# Altium footprint library PcbLib1.PcbLib: 13 footprints
Each footprint in its own frame and in the unit in brackets; x right, y up, seen from the top. Pads: shape width x height; smd on the part's side, far side on the other; paste and mask are expansions set on the pad; w line width, h text height; cw(c..) or ccw(c..) is an arc to the next point about the centre after c.
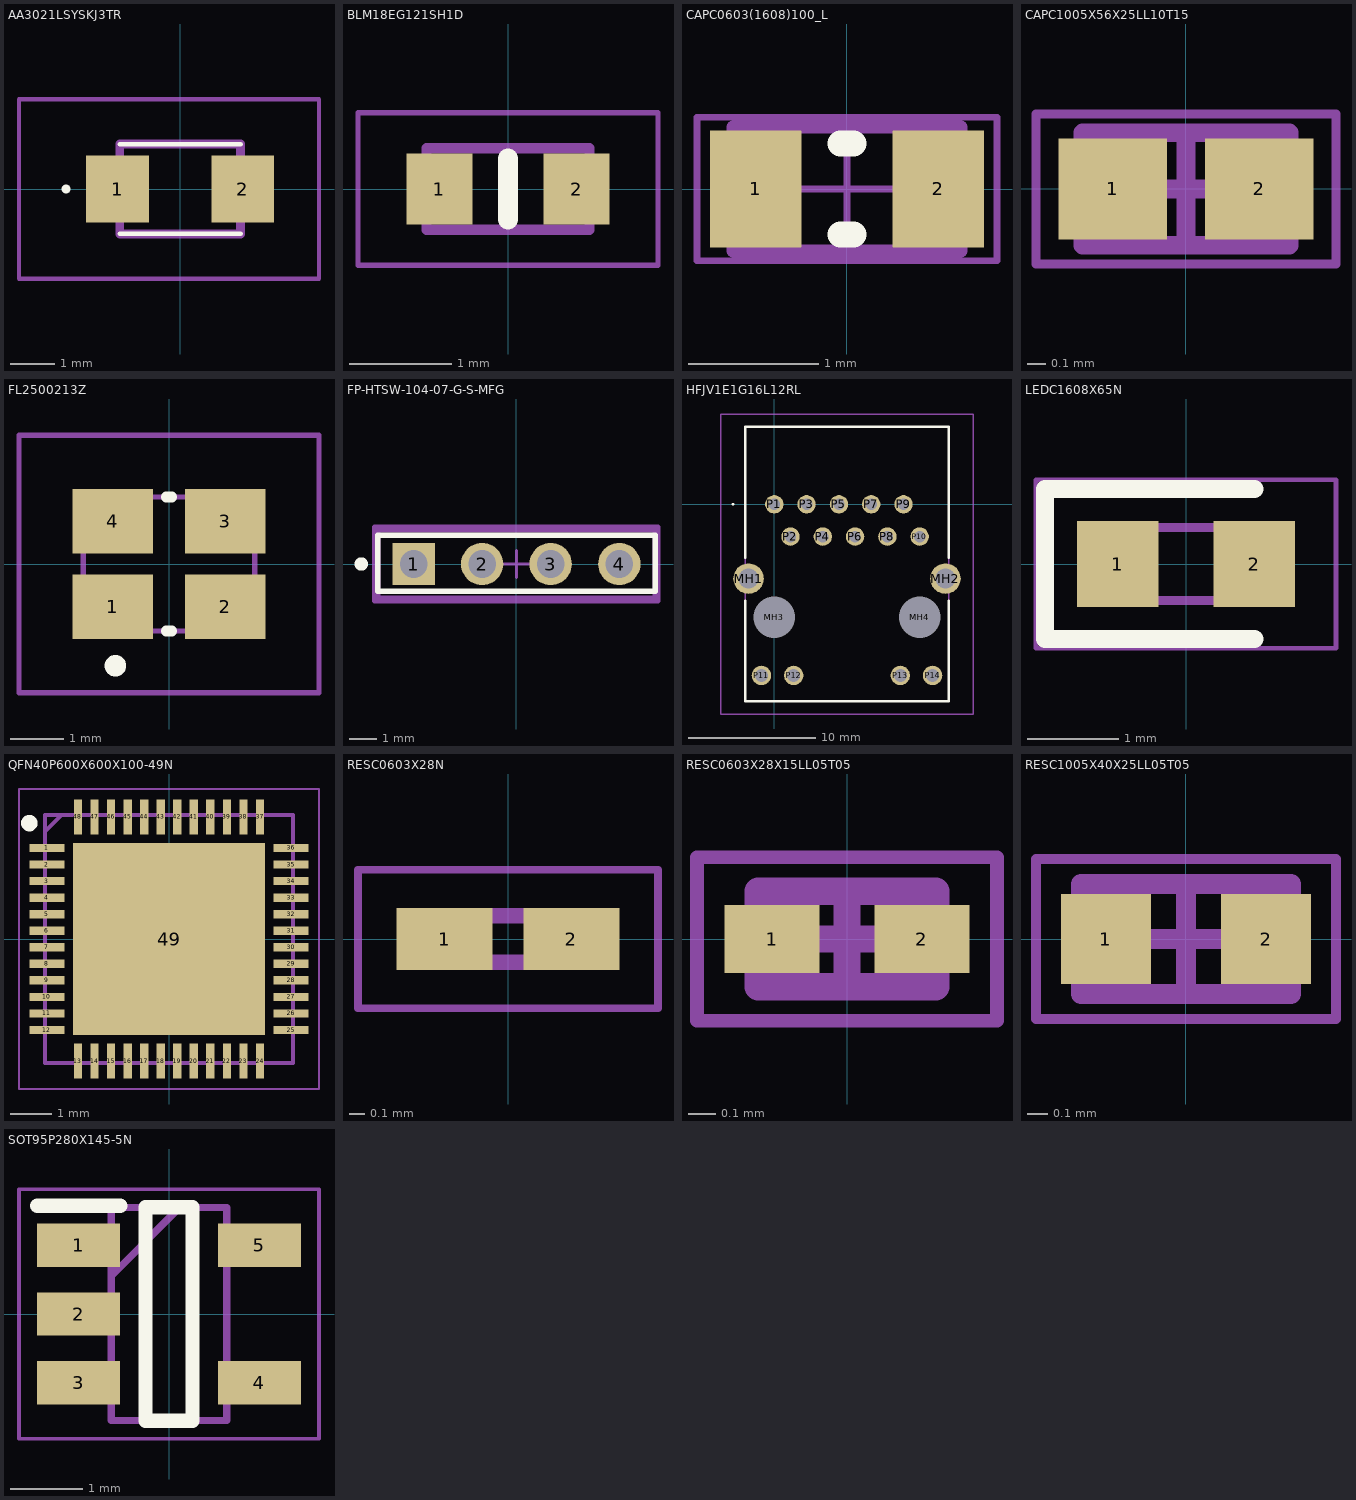
[diagram p0: the footprints below, top view; thin cyan lines are the x and y axes]

## AA3021LSYSKJ3TR [mm]
pads (2):
  rect 1.4x1.5 smd: 1(-1.4,0) 2(1.4,0)
Top Overlay:
  lines w0.1: -1.35,-1 1.35,-1 ; -1.35,1 1.35,1 ; -2.6,0 ccw(c-2.55,0) -2.5,0 ccw(c-2.55,0) -2.6,0
Mechanical 13:
  lines w0.2: -1.35,-1 1.35,-1 1.35,1 -1.35,1 -1.35,-1
Mechanical 15:
  lines w0.1: -3.6,-2 3.1,-2 3.1,2 -3.6,2 -3.6,-2
3D body "AA3021LSYSK_J3-TR.stp": height 1.4, standoff 0, extent -1.35,-1 1.35,1

## BLM18EG121SH1D [mm]
pads (2):
  rect 0.65x0.7 smd: 1(-0.675,0) 2(0.675,0)
Top Overlay:
  lines w0.2: 0,-0.3 0,0.3
Mechanical 13:
  lines w0.1: -0.8,-0.4 -0.8,0.4 0.8,0.4 0.8,-0.4 -0.8,-0.4
Mechanical 15:
  lines w0.05: -1.475,-0.75 -1.475,0.75 1.475,0.75 1.475,-0.75 -1.475,-0.75
3D body "BLM18KG601SN1B.stp": height 0.8, standoff 0, extent -0.8,-0.4 0.8,0.4

## CAPC0603(1608)100_L [mm] "Chip Capacitor, Body 1.6x0.8mm, Height 1.0mm, IPC High Density"
height 1
pads (2):
  rect 0.7x0.9 smd: 1(-0.7,0) 2(0.7,0)
Top Overlay:
  lines w0.2: -0.05,-0.35 0.05,-0.35 ; -0.05,0.35 0.05,0.35
Mechanical 13:
  lines w0.1: -0.875,-0.475 -0.875,0.475 0.875,0.475 0.875,-0.475 -0.875,-0.475
Mechanical 15:
  lines w0.05: -0.475,0 0.475,0 ; 0,-0.475 0,0.475 ; -1.15,-0.55 -1.15,0.55 1.15,0.55 1.15,-0.55 -1.15,-0.55
3D body: height 1, standoff 0, extent -0.525,-0.475 0.525,0.475
3D body: height 1, standoff 0, extent -0.875,-0.475 -0.525,0.475
3D body: height 1, standoff 0, extent 0.525,-0.475 0.875,0.475

## CAPC1005X56X25LL10T15 [mm] "Chip Capacitor, 2-Leads, Body 1.00x0.50mm, IPC High Density"
height 0.56
pads (2):
  rect 0.58x0.54 smd: 1(-0.39,0) 2(0.39,0)
Mechanical 13:
  lines w0.1: -0.55,-0.3 -0.55,0.3 0.55,0.3 0.55,-0.3 -0.55,-0.3
Mechanical 15:
  lines w0.05: -0.8,-0.4 -0.8,0.4 0.8,0.4 0.8,-0.4 -0.8,-0.4
  lines w0.1: -0.3,0 0.3,0 ; 0,-0.3 0,0.3
3D body: height 0.56, standoff 0, extent -0.3,-0.3 0.3,0.3
3D body: height 0.56, standoff 0, extent -0.55,-0.3 -0.3,0.3
3D body: height 0.56, standoff 0, extent 0.3,-0.3 0.55,0.3

## FL2500213Z [mm]
pads (4):
  rect 1.5x1.2 smd: 1(-1.05,-0.8) 2(1.05,-0.8) 3(1.05,0.8) 4(-1.05,0.8)
Top Overlay:
  lines w0.2: -0.05,-1.25 0.05,-1.25 ; -0.05,1.25 0.05,1.25 ; -1,-2 cw(c-1,-1.9) -1,-1.8 cw(c-1,-1.9) -1,-2
Mechanical 13:
  lines w0.1: -1.6,-1.25 -1.6,1.25 1.6,1.25 1.6,-1.25 -1.6,-1.25
Mechanical 15:
  lines w0.1: -2.8,-2.4 -2.8,2.4 2.8,2.4 2.8,-2.4 -2.8,-2.4
3D body "FL2500213Z.stp": height 0.88, standoff 0, extent -1.68,-1.28 1.68,1.28

## FP-HTSW-104-07-G-S-MFG [mm]
pads (4):
  rect 1.57x1.57 hole 1.02 paste-1000 mask+0: 1(-3.81,0)
  round 1.57 hole 1.02 paste-1000 mask+0: 2(-1.27,0) 3(1.27,0) 4(3.81,0)
Top Overlay:
  circle w0.25: c-5.743,0 r0.125
  lines w0.2: -5.143,-1.016 5.143,-1.016 5.143,1.063 -4.111,1.063 -5.143,1.063 -5.143,-1.016
Top 3D Body:
  lines w0.2: -5.143,-1.27 5.143,-1.27 5.143,1.27 -5.143,1.27 -5.143,-1.27
Top Courtyard:
  lines w0.2: -5.243,-1.37 5.243,-1.37 5.243,1.37 -5.243,1.37 -5.243,-1.37
Top Assembly:
  lines w0.2: -5.243,-1.37 5.243,-1.37 5.243,1.37 -5.243,1.37 -5.243,-1.37
  text ".Designator" at 0,0.188 h1
Top Component Center:
  lines w0.1: -0.5,0 0.5,0 ; 0,-0.5 0,0.5
3D body "Conn_Samtec_HTSW-104-07-G-S_eec.STEP": height 0.25, standoff 0, extent -5.243,-1.37 5.243,1.37

## HFJV1E1G16L12RL [mm]
pads (18):
  round 2.4 hole 1.6: MH1(-2.03,-5.84) MH2(13.46,-5.84)
  round 1.625 hole 3.25 unplated: MH3(0,-8.89) MH4(11.43,-8.89)
  round 1.446 hole 0.89: P1(0,0) P2(1.27,-2.54) P3(2.54,0) P4(3.81,-2.54) P5(5.08,0) P6(6.35,-2.54) P7(7.62,0) P8(8.89,-2.54) P9(10.16,0) P10(11.43,-2.54)
  round 1.53 hole 1.02: P11(-1.015,-13.46) P12(1.525,-13.46) P13(9.905,-13.46) P14(12.445,-13.46)
Top Overlay:
  lines w0.1: -3.3,0 cw(c-3.25,0) -3.2,0 cw(c-3.25,0) -3.3,0
  lines w0.2: -2.285,-7.6 -2.285,-15.49 13.715,-15.49 13.715,-7.6 ; -2.285,-4.2 -2.285,6.1 13.715,6.1 13.715,-4.2
Mechanical 13:
  lines w0.1: -2.285,-15.49 13.715,-15.49 13.715,6.1 -2.285,6.1 -2.285,-15.49
Mechanical 15:
  lines w0.1: -4.23,-16.49 15.66,-16.49 15.66,7.1 -4.23,7.1 -4.23,-16.49
3D body "HFJV1-E1G16-L12RL.stp": height 16.61, standoff -5, extent -2.73,-15.49 14.16,6.1

## LEDC1608X65N [mm]
pads (2):
  rect 0.9x0.95 smd: 1(-0.75,0) 2(0.75,0)
Top Overlay:
  lines w0.2: 0.75,-0.825 -1.55,-0.825 -1.55,0.825 0.75,0.825
Mechanical 13:
  lines w0.1: -0.8,0.133 -0.533,0.4 ; -0.8,-0.4 0.8,-0.4 0.8,0.4 -0.8,0.4 -0.8,-0.4
Mechanical 15:
  lines w0.05: -1.65,-0.925 1.65,-0.925 1.65,0.925 -1.65,0.925 -1.65,-0.925
3D body "CSL1901VW1.stp": height 0.55, standoff 0, extent -0.8,-0.4 0.8,0.4

## QFN40P600X600X100-49N [mm]
pads (49):
  rect 0.85x0.2 smd: 1(-2.95,2.2) 2(-2.95,1.8) 3(-2.95,1.4) 4(-2.95,1) 5(-2.95,0.6) 6(-2.95,0.2) 7(-2.95,-0.2) 8(-2.95,-0.6) 9(-2.95,-1) 10(-2.95,-1.4) 11(-2.95,-1.8) 12(-2.95,-2.2) 25(2.95,-2.2) 26(2.95,-1.8) 27(2.95,-1.4) 28(2.95,-1) 29(2.95,-0.6) 30(2.95,-0.2) 31(2.95,0.2) 32(2.95,0.6) 33(2.95,1) 34(2.95,1.4) 35(2.95,1.8) 36(2.95,2.2)
  rect 0.2x0.85 smd: 13(-2.2,-2.95) 14(-1.8,-2.95) 15(-1.4,-2.95) 16(-1,-2.95) 17(-0.6,-2.95) 18(-0.2,-2.95) 19(0.2,-2.95) 20(0.6,-2.95) 21(1,-2.95) 22(1.4,-2.95) 23(1.8,-2.95) 24(2.2,-2.95) 37(2.2,2.95) 38(1.8,2.95) 39(1.4,2.95) 40(1,2.95) 41(0.6,2.95) 42(0.2,2.95) 43(-0.2,2.95) 44(-0.6,2.95) 45(-1,2.95) 46(-1.4,2.95) 47(-1.8,2.95) 48(-2.2,2.95)
  rect 4.65x4.65 smd: 49(0,0)
Top Overlay:
  circle w0.2: c-3.375,2.8 r0.1
Mechanical 13:
  lines w0.1: -3,2.6 -2.6,3 ; -3,-3 -3,3 3,3 3,-3 -3,-3
Mechanical 15:
  lines w0.05: -3.625,-3.625 -3.625,3.625 3.625,3.625 3.625,-3.625 -3.625,-3.625
3D body "RTL8211E-VL-CG.stp": height 1, standoff 0, extent -3.05,-3.05 3.05,3.05

## RESC0603X28N [mm]
pads (2):
  rect 0.625x0.4 smd: 1(-0.412,0) 2(0.412,0)
Mechanical 13:
  lines w0.1: -0.3,-0.15 0.3,-0.15 0.3,0.15 -0.3,0.15 -0.3,-0.15
Mechanical 15:
  lines w0.05: -0.975,-0.45 0.975,-0.45 0.975,0.45 -0.975,0.45 -0.975,-0.45
3D body "CRCW02011K50FKED.stp": height 0.28, standoff 0, extent -0.3,-0.15 0.3,0.15

## RESC0603X28X15LL05T05 [mm] "Chip Resistor, 2-Leads, Body 0.60x0.30mm, IPC High Density"
height 0.28
pads (2):
  rect 0.35x0.25 smd: 1(-0.275,0) 2(0.275,0)
Mechanical 13:
  lines w0.1: -0.325,-0.175 0.325,-0.175 0.325,0.175 -0.325,0.175 -0.325,-0.175
Mechanical 15:
  lines w0.05: -0.55,-0.3 0.55,-0.3 0.55,0.3 -0.55,0.3 -0.55,-0.3
  lines w0.1: -0.175,0 0.175,0 ; 0,-0.175 0,0.175
3D body: height 0.28, standoff 0, extent 0.175,-0.175 0.325,0.175
3D body: height 0.28, standoff 0, extent -0.325,-0.175 -0.175,0.175
3D body: height 0.28, standoff 0, extent -0.175,-0.175 0.175,0.175

## RESC1005X40X25LL05T05 [mm] "Chip Resistor, 2-Leads, Body 1.05x0.55mm, IPC High Density"
height 0.4
pads (2):
  rect 0.45x0.45 smd: 1(-0.4,0) 2(0.4,0)
Mechanical 13:
  lines w0.1: -0.525,-0.275 0.525,-0.275 0.525,0.275 -0.525,0.275 -0.525,-0.275
Mechanical 15:
  lines w0.05: -0.75,-0.4 0.75,-0.4 0.75,0.4 -0.75,0.4 -0.75,-0.4
  lines w0.1: -0.275,0 0.275,0 ; 0,-0.275 0,0.275
3D body "RESC1005X04L.step": height 0.4, standoff 0, extent -0.525,-0.275 0.525,0.275

## SOT95P280X145-5N [mm]
pads (5):
  rect 1.15x0.6 smd: 1(-1.25,0.95) 2(-1.25,0) 3(-1.25,-0.95) 4(1.25,-0.95) 5(1.25,0.95)
Top Overlay:
  lines w0.2: -1.825,1.5 -0.675,1.5 ; -0.325,-1.475 -0.325,1.475 0.325,1.475 0.325,-1.475 -0.325,-1.475
Mechanical 13:
  lines w0.1: -0.8,0.525 0.15,1.475 ; -0.8,-1.475 -0.8,1.475 0.8,1.475 0.8,-1.475 -0.8,-1.475
Mechanical 15:
  lines w0.05: -2.075,-1.725 -2.075,1.725 2.075,1.725 2.075,-1.725 -2.075,-1.725
3D body "LD39015M10R.stp": height 1.45, standoff 0, extent -1.4,-1.475 1.4,1.475